# Altium schematic symbol library 00.SchLib: 29 symbols
Pins are listed as number, name and electrical type; pins without a type are passive.

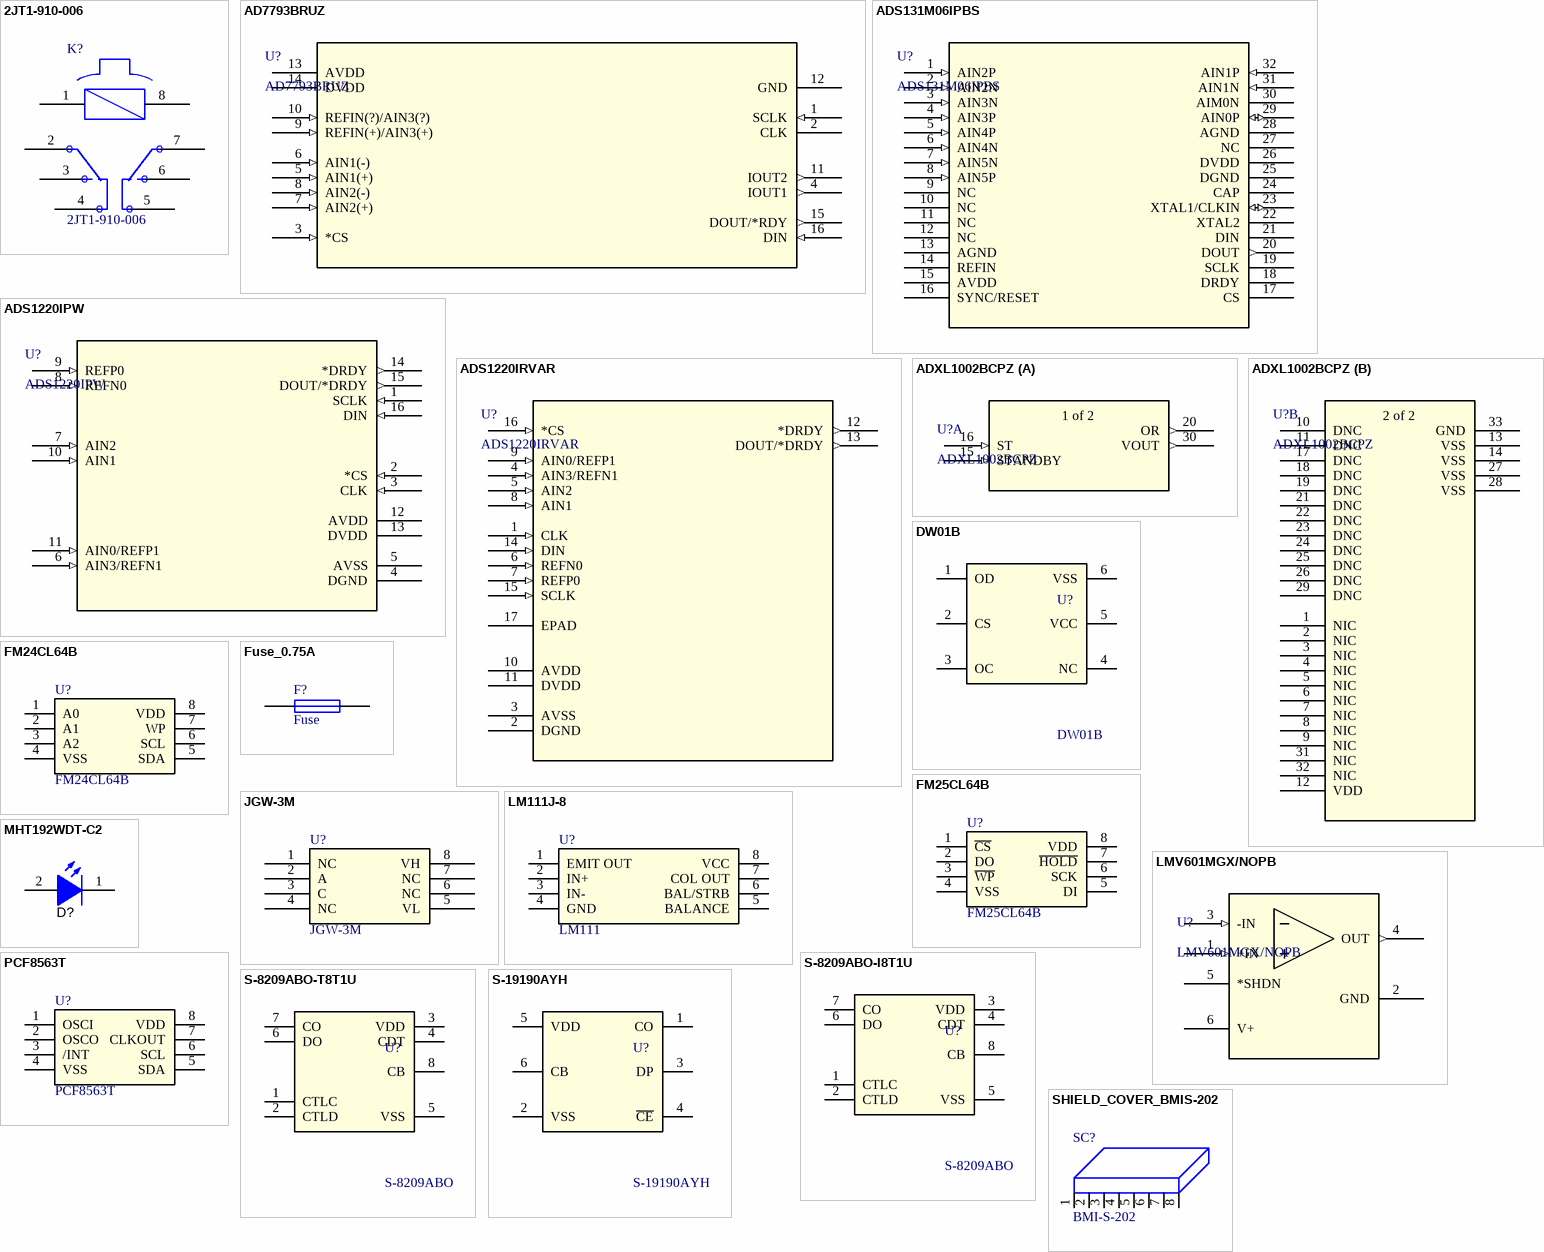
[diagram p0: symbols 2JT1-910-006 to SHIELD_COVER_BMIS-202]

## 2JT1-910-006
designator K?
线圈电阻98Ω，动作电压4.5~5.2V; CompType: 密封电磁继电器; Manufacturer: -; DistributorCode: -; Code: 2JT1-910-006; Package: TO-5; A_Code: -; A_Manufacturer: -; A_ComType: -
footprint TO-5
pins: 1, 2, 3, 4, 5, 6, 7, 8

## AD7793BRUZ
designator U?
模数转换芯片; Manufacturer: ADI(亚德诺); Code: AD7793BRUZ; A_Code: -; A_ComType: -; A_Manufacturer: -; CompType: 模数转换芯片; DistributorCode: C578522; Package: TSSOP-16
footprint RU_16
pins: 1 SCLK (in), 2 CLK, 3 *CS (in), 4 IOUT1 (out), 5 AIN1(+) (in), 6 AIN1(-) (in), 7 AIN2(+) (in), 8 AIN2(-) (in), 9 REFIN(+)/AIN3(+) (in), 10 REFIN(?)/AIN3(?) (in), 11 IOUT2 (out), 12 GND, 13 AVDD (power), 14 DVDD (power), 15 DOUT/*RDY (out), 16 DIN (in)

## ADS131M06IPBS
designator U?
-; Manufacturer: TI(德州仪器); CompType: 模数转换芯片; Code: ADS131M06IPBS; DistributorCode: -; Package: TSSOP-16; A_Code: -; A_ComType: -; A_Manufacturer: -
footprint QFP_06IPBS_TEX-L
pins: 1 AIN2P (in), 2 AIN2N (in), 3 AIN3N (in), 4 AIN3P (in), 5 AIN4P (in), 6 AIN4N (in), 7 AIN5N (in), 8 AIN5P (in), 9 NC, 10 NC, 11 NC, 12 NC, 13 AGND, 14 REFIN, 15 AVDD (power), 16 SYNC/RESET, 17 CS, 18 DRDY, 19 SCLK, 20 DOUT (out), 21 DIN, 22 XTAL2, 23 XTAL1/CLKIN (io), 24 CAP, 25 DGND, 26 DVDD (power), 27 NC, 28 AGND, 29 AIN0P (io), 30 AIM0N, 31 AIN1N (in), 32 AIN1P (in)

## ADS1220IPW
designator U?
模数转换芯片 / 读写接口类型 SPI / 工作电压 2.3V~5.5V / 输入类型 Differential, Single Ended / 参考类型 External, Internal / 输入数 2,4 / 采样率（sps） 2K / A/D 位数 24; Manufacturer: TI(德州仪器); Code: ADS1220IPW; CompType: 模数转换芯片; DistributorCode: C48263; Package: TSSOP-16; A_Code: -; A_ComType: -; A_Manufacturer: -
footprint PW16
pins: 1 SCLK (in), 2 *CS (in), 3 CLK (in), 4 DGND (power), 5 AVSS (power), 6 AIN3/REFN1 (in), 7 AIN2 (in), 8 REFN0 (in), 9 REFP0 (in), 10 AIN1 (in), 11 AIN0/REFP1 (in), 12 AVDD (power), 13 DVDD (power), 14 *DRDY (out), 15 DOUT/*DRDY (out), 16 DIN (in)

## ADS1220IRVAR
designator U?
模数转换芯片 / 读写接口类型 SPI / 工作电压 2.3V~5.5V / 输入类型 Differential, Single Ended / 参考类型 External, Internal / 输入数 2,4 / 采样率（sps） 2K / A/D 位数 24; Manufacturer: TI(德州仪器); Code: ADS1220IRVAR; CompType: 模数转换芯片; DistributorCode: C48263; Package: VFQFN-16
footprint RVA16_2P14X2P14
pins: 1 CLK (in), 2 DGND (power), 3 AVSS (power), 4 AIN3/REFN1 (in), 5 AIN2 (in), 6 REFN0 (in), 7 REFP0 (in), 8 AIN1 (in), 9 AIN0/REFP1 (in), 10 AVDD (power), 11 DVDD (power), 12 *DRDY (out), 13 DOUT/*DRDY (out), 14 DIN (in), 15 SCLK (in), 16 *CS (in), 17 EPAD

## ADXL1002BCPZ
designator U?
Manufacturer: ADI(亚德诺); CompType: 加速度计; DistributorCode: C579442; Code: ADXL1002BCPZ; Package: LFCSP-32
footprint CP-32-26_ADI
part A pins: 15 STANDBY (in), 16 ST (in), 20 OR (out), 30 VOUT (out)
part B pins: 1 NIC, 2 NIC, 3 NIC, 4 NIC, 5 NIC, 6 NIC, 7 NIC, 8 NIC, 9 NIC, 10 DNC, 11 DNC, 12 VDD (power), 13 VSS, 14 VSS, 17 DNC, 18 DNC, 19 DNC, 21 DNC, 22 DNC, 23 DNC, 24 DNC, 25 DNC, 26 DNC, 27 VSS, 28 VSS, 29 DNC, 31 NIC, 32 NIC, 33 GND
part A text: 1 of 2
part B text: 2 of 2

## DW01B
designator U?
Manufacturer: BLUE ROCKET(蓝箭); CompType: 电池保护芯片; Code: DW01B; DistributorCode: C305480; Package: SOT23-6
footprint USOT23-6
pins: 1 OD, 2 CS, 3 OC, 4 NC (power), 5 VCC (power), 6 VSS (hiz)

## FM24CL64B
designator U?
存储器构架(格式) FRAM / 存储器接口类型 I2C / 存储器容量 64Kb (8K x 8) / 工作电压 3V ~ 3.6V / 存储器类型 Non-Volatile; Manufacturer: CYPRESS(赛普拉斯); Code: FM24CL64B-GTR; CompType: FRAM存储器; DistributorCode: C9829; Package: SOIC-8; A_Code: -; A_ComType: -; A_Manufacturer: -
footprint SOP-8_150mil
footprint D8_TEX
pins: 1 A0 (power), 2 A1 (power), 3 A2 (power), 4 VSS, 5 SDA, 6 SCL, 7 WP, 8 VDD

## FM25CL64B
designator U?
存储器构架(格式) FRAM / 存储器接口类型 SPI / 存储器容量 64Kb (8K x 8) / 工作电压 2.7V ~ 3.65V / 存储器类型 Non-Volatile; Manufacturer: CYPRESS(赛普拉斯); Code: FM25CL64B-GTR; CompType: FRAM存储器; DistributorCode: C9830; Package: SOIC-8; A_Code: -; A_ComType: -; A_Manufacturer: -
footprint SOP-8_150mil
footprint D8_TEX
pins: 1 ~{CS} (power), 2 DO (power), 3 ~{WP} (power), 4 VSS, 5 DI, 6 SCK, 7 ~{HOLD}, 8 VDD

## Fuse_0.75A
designator F?, comment Fuse
额定电流0.75A;额定电压125V;L*W=6.1*2.69mm;-55℃～125℃; Manufacturer: Littelfuse; Code: 0451.750MRL; CompType: 表贴快断型一次熔断保险管; Revision: July-2002: Re-released for DXP Platform.; DistributorCode: C151117; Package: SMF_045X; A_Code: -; A_ComType: -; A_Manufacturer: -
footprint FUSE
pins: 1, 2

## JGW-3M
designator U?
固态继电器; Manufacturer: 中国航天; Code: JGW-3M/SMD/Y; DistributorCode: -; Package: SMD-8_9.0MM; A_Code: -; A_Manufacturer: -; CompType: 固态继电器; A_ComType: -
footprint SMD-8_9.0MM
footprint SMD-8_9.0MM
pins: 1 NC, 2 A, 3 C, 4 NC, 5 VL, 6 NC, 7 NC, 8 VH

## LM111J-8
designator U?, comment LM111
比较器; Manufacturer: NS; Code: LM111J; DistributorCode: -; Package: CDIP(8); A_Code: -; A_Manufacturer: -; CompType: 比较器; A_ComType: -
footprint DIP-8_L9.7-W6.4-P2.54-LS7.6-BL
pins: 1 EMIT OUT (power), 2 IN+ (power), 3 IN- (power), 4 GND, 5 BALANCE, 6 BAL/STRB, 7 COL OUT, 8 VCC

## LMV601MGX/NOPB
designator U?
运算放大器; Manufacturer: TI(德州仪器); CompType: 运放; DistributorCode: C470960; Package: SC-70-6; Code: LMV601MGX/NOPB
footprint DCK6_TEX-L
pins: 1 +IN (in), 2 GND (power), 3 -IN (in), 4 OUT (out), 5 *SHDN, 6 V+ (power)

## MHT192WDT-C2
designator D?  (value not drawn)
LED SMD贴片0603顶部发光 / 黄色雾状胶体，高亮白色光 / 电压VF:2.6-3.1V@5mA / 亮度Iv:228-450mcd@5mA / 坐标x:0.3,y:0.3 / 发光角度:120deg; Manufacturer: MEIHUA(美华科技); CompType: LED; Code: MHT192WDT-C2; Package: 0603; DistributorCode: C389521; A_Code: -; A_ComType: -; A_Manufacturer: -
footprint LED0603
pins: 1 K, 2 A

## PCF8563T
designator U?
电压 - 电源：1.8 V ~ 5.5 V / 电流 - 计时（最大）：0.6μA ~ 0.75μA @ 2V ~ 5V / 工作温度：-40°C ~ 85°C; Manufacturer: NXP(恩智浦); Code: PCF8563T/5,518; CompType: 实时时钟芯片; DistributorCode: C7440; Package: SOIC-8; A_Code: -; A_ComType: -; A_Manufacturer: -
footprint D8_TEX
pins: 1 OSCI (power), 2 OSCO (power), 3 /INT (power), 4 VSS, 5 SDA, 6 SCL, 7 CLKOUT, 8 VDD

## S-8209ABO-I8T1U
designator U?, comment S-8209ABO
均衡电压4.175V;过充电压4.25V-4.1V; Manufacturer: 艾普凌科; Code: S-8209ABO-I8T1U; CompType: 电池保护芯片; DistributorCode: -; Package: SNT-8A
footprint TSSOP-8
footprint SNT-8A
pins: 1 CTLC, 2 CTLD, 3 VDD, 4 CDT (power), 5 VSS (power), 6 DO (hiz), 7 CO, 8 CB

## S-8209ABO-T8T1U
designator U?, comment S-8209ABO
均衡电压4.175V;过充电压4.25V-4.1V; Manufacturer: 艾普凌科; Code: S-8209ABO-T8T1U; CompType: 电池保护芯片; DistributorCode: -; Package: TSSOP-8
footprint TSSOP-8
pins: 1 CTLC, 2 CTLD, 3 VDD, 4 CDT (power), 5 VSS (power), 6 DO (hiz), 7 CO, 8 CB

## S-19190AYH
designator U?
均衡电压4.15V;过充电压4.275V; Manufacturer: 艾普凌科; CompType: 电池保护芯片; Code: S-19190AYH; DistributorCode: -; Package: SOT23-6
footprint USOT23-6
pins: 1 CO, 2 VSS, 3 DP, 4 ~{CE} (power), 5 VDD (power), 6 CB (hiz)

## SHIELD_COVER_BMIS-202
designator SC?, comment BMI-S-202
BMI-S-202-F：EMI垫片、金属薄片、吸收片和屏蔽片 SBS,FRAM,TnR 3.60x16.50x16.50MM / BMI-S-202-C：EMI垫片、金属薄片、吸收片和屏蔽片 SBS,COVR,BP 2.00x16.96x16.96MM; Manufacturer: Laird Technologies EMI; Code: BMI-S-202-C(罩子)BMI-S-202-F（骨架）; CompType: SHIELD; Package: BMI-S-202; DistributorCode: Mouser 零件编号：739-BMI-202-C和739-BMI-202-F; A_Code: -; A_ComType: -; A_Manufacturer: -
footprint MECH_BMIS202N
pins: 1 GND (power), 2 GND (power), 3 GND (power), 4 GND (power), 5 GND (power), 6 GND (power), 7 GND (power), 8 GND (power)

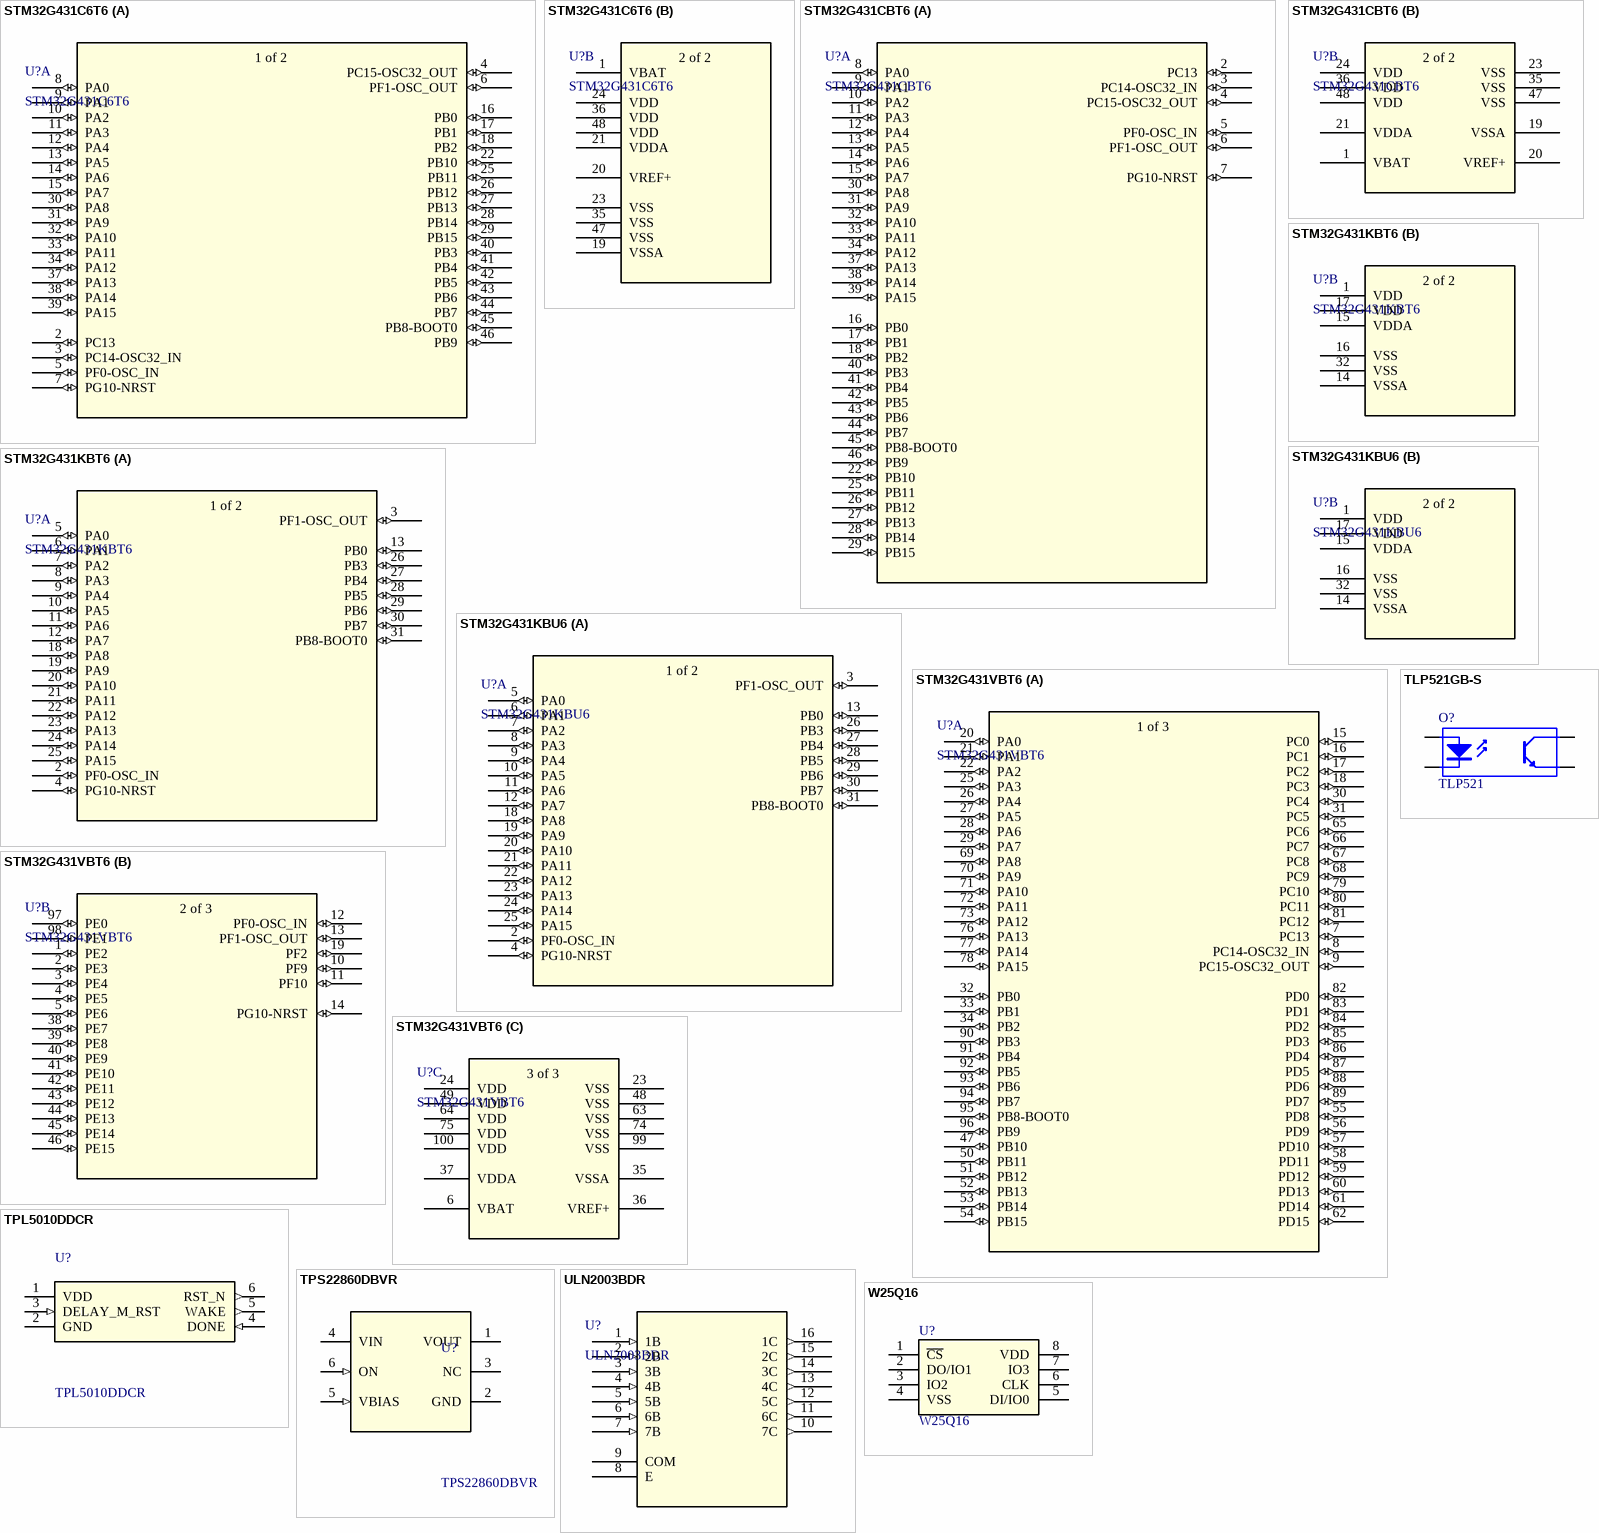
[diagram p1: symbols STM32G431C6T6 to W25Q16]

## STM32G431C6T6
designator U?
No Description Available; Manufacturer: ST(意法半导体); CompType: MCU; Code: STM32G431C6T6; DistributorCode: C529354; Package: LQFP-48
footprint LQFP48-7x7mm
part A pins: 2 PC13 (io), 3 PC14-OSC32_IN (io), 4 PC15-OSC32_OUT (io), 5 PF0-OSC_IN (io), 6 PF1-OSC_OUT (io), 7 PG10-NRST (io), 8 PA0 (io), 9 PA1 (io), 10 PA2 (io), 11 PA3 (io), 12 PA4 (io), 13 PA5 (io), 14 PA6 (io), 15 PA7 (io), 16 PB0 (io), 17 PB1 (io), 18 PB2 (io), 22 PB10 (io), 25 PB11 (io), 26 PB12 (io), 27 PB13 (io), 28 PB14 (io), 29 PB15 (io), 30 PA8 (io), 31 PA9 (io), 32 PA10 (io), 33 PA11 (io), 34 PA12 (io), 37 PA13 (io), 38 PA14 (io), 39 PA15 (io), 40 PB3 (io), 41 PB4 (io), 42 PB5 (io), 43 PB6 (io), 44 PB7 (io), 45 PB8-BOOT0 (io), 46 PB9 (io)
part B pins: 1 VBAT (power), 19 VSSA (power), 20 VREF+ (power), 21 VDDA (power), 23 VSS (power), 24 VDD (power), 35 VSS (power), 36 VDD (power), 47 VSS (power), 48 VDD (power)
part A text: 1 of 2
part B text: 2 of 2

## STM32G431CBT6
designator U?
No Description Available; Manufacturer: ST(意法半导体); Code: STM32G431CBT6A; CompType: MCU; DistributorCode: C529354; Package: LQFP-48
footprint LQFP48-7x7mm
part A pins: 2 PC13 (io), 3 PC14-OSC32_IN (io), 4 PC15-OSC32_OUT (io), 5 PF0-OSC_IN (io), 6 PF1-OSC_OUT (io), 7 PG10-NRST (io), 8 PA0 (io), 9 PA1 (io), 10 PA2 (io), 11 PA3 (io), 12 PA4 (io), 13 PA5 (io), 14 PA6 (io), 15 PA7 (io), 16 PB0 (io), 17 PB1 (io), 18 PB2 (io), 22 PB10 (io), 25 PB11 (io), 26 PB12 (io), 27 PB13 (io), 28 PB14 (io), 29 PB15 (io), 30 PA8 (io), 31 PA9 (io), 32 PA10 (io), 33 PA11 (io), 34 PA12 (io), 37 PA13 (io), 38 PA14 (io), 39 PA15 (io), 40 PB3 (io), 41 PB4 (io), 42 PB5 (io), 43 PB6 (io), 44 PB7 (io), 45 PB8-BOOT0 (io), 46 PB9 (io)
part B pins: 1 VBAT (power), 19 VSSA (power), 20 VREF+ (power), 21 VDDA (power), 23 VSS (power), 24 VDD (power), 35 VSS (power), 36 VDD (power), 47 VSS (power), 48 VDD (power)
part B text: 2 of 2

## STM32G431KBT6
designator U?
No Description Available; Manufacturer: ST(意法半导体); CompType: MCU; Code: STM32G431KBT6; DistributorCode: C529357; Package: LQFP-32
footprint LQFP-32
part A pins: 2 PF0-OSC_IN (io), 3 PF1-OSC_OUT (io), 4 PG10-NRST (io), 5 PA0 (io), 6 PA1 (io), 7 PA2 (io), 8 PA3 (io), 9 PA4 (io), 10 PA5 (io), 11 PA6 (io), 12 PA7 (io), 13 PB0 (io), 18 PA8 (io), 19 PA9 (io), 20 PA10 (io), 21 PA11 (io), 22 PA12 (io), 23 PA13 (io), 24 PA14 (io), 25 PA15 (io), 26 PB3 (io), 27 PB4 (io), 28 PB5 (io), 29 PB6 (io), 30 PB7 (io), 31 PB8-BOOT0 (io)
part B pins: 1 VDD (power), 14 VSSA (power), 15 VDDA (power), 16 VSS (power), 17 VDD (power), 32 VSS (power)
part A text: 1 of 2
part B text: 2 of 2

## STM32G431KBU6
designator U?
No Description Available; Manufacturer: ST(意法半导体); CompType: MCU; Code: STM32G431KBU6; DistributorCode: C529358; Package: UFQFPN-32
footprint UFQFPN-32
part A pins: 2 PF0-OSC_IN (io), 3 PF1-OSC_OUT (io), 4 PG10-NRST (io), 5 PA0 (io), 6 PA1 (io), 7 PA2 (io), 8 PA3 (io), 9 PA4 (io), 10 PA5 (io), 11 PA6 (io), 12 PA7 (io), 13 PB0 (io), 18 PA8 (io), 19 PA9 (io), 20 PA10 (io), 21 PA11 (io), 22 PA12 (io), 23 PA13 (io), 24 PA14 (io), 25 PA15 (io), 26 PB3 (io), 27 PB4 (io), 28 PB5 (io), 29 PB6 (io), 30 PB7 (io), 31 PB8-BOOT0 (io)
part B pins: 1 VDD (power), 14 VSSA (power), 15 VDDA (power), 16 VSS (power), 17 VDD (power), 32 VSS (power)
part A text: 1 of 2
part B text: 2 of 2

## STM32G431VBT6
designator U?
No Description Available; Manufacturer: ST(意法半导体); CompType: MCU; Code: STM32G431VBT6; DistributorCode: C529359; Package: LQFP-100
footprint LQFP100-14x14mm
part A pins: 7 PC13 (io), 8 PC14-OSC32_IN (io), 9 PC15-OSC32_OUT (io), 15 PC0 (io), 16 PC1 (io), 17 PC2 (io), 18 PC3 (io), 20 PA0 (io), 21 PA1 (io), 22 PA2 (io), 25 PA3 (io), 26 PA4 (io), 27 PA5 (io), 28 PA6 (io), 29 PA7 (io), 30 PC4 (io), 31 PC5 (io), 32 PB0 (io), 33 PB1 (io), 34 PB2 (io), 47 PB10 (io), 50 PB11 (io), 51 PB12 (io), 52 PB13 (io), 53 PB14 (io), 54 PB15 (io), 55 PD8 (io), 56 PD9 (io), 57 PD10 (io), 58 PD11 (io), 59 PD12 (io), 60 PD13 (io), 61 PD14 (io), 62 PD15 (io), 65 PC6 (io), 66 PC7 (io), 67 PC8 (io), 68 PC9 (io), 69 PA8 (io), 70 PA9 (io), 71 PA10 (io), 72 PA11 (io), 73 PA12 (io), 76 PA13 (io), 77 PA14 (io), 78 PA15 (io), 79 PC10 (io), 80 PC11 (io), 81 PC12 (io), 82 PD0 (io), 83 PD1 (io), 84 PD2 (io), 85 PD3 (io), 86 PD4 (io), 87 PD5 (io), 88 PD6 (io), 89 PD7 (io), 90 PB3 (io), 91 PB4 (io), 92 PB5 (io), 93 PB6 (io), 94 PB7 (io), 95 PB8-BOOT0 (io), 96 PB9 (io)
part B pins: 1 PE2 (io), 2 PE3 (io), 3 PE4 (io), 4 PE5 (io), 5 PE6 (io), 10 PF9 (io), 11 PF10 (io), 12 PF0-OSC_IN (io), 13 PF1-OSC_OUT (io), 14 PG10-NRST (io), 19 PF2 (io), 38 PE7 (io), 39 PE8 (io), 40 PE9 (io), 41 PE10 (io), 42 PE11 (io), 43 PE12 (io), 44 PE13 (io), 45 PE14 (io), 46 PE15 (io), 97 PE0 (io), 98 PE1 (io)
part C pins: 6 VBAT (power), 23 VSS (power), 24 VDD (power), 35 VSSA (power), 36 VREF+ (power), 37 VDDA (power), 48 VSS (power), 49 VDD (power), 63 VSS (power), 64 VDD (power), 74 VSS (power), 75 VDD (power), 99 VSS (power), 100 VDD (power)
part A text: 1 of 3
part B text: 2 of 3
part C text: 3 of 3

## TLP521GB-S
designator O?, comment TLP521
光耦; Manufacturer: UMW(友台半导体); Code: TLP521GB-S; DistributorCode: C364143; Package: SMD-4P; A_Code: -; A_Manufacturer: -; CompType: 光耦; A_ComType: -
footprint DIP-4 (DIP; 4 Leads; Row Spacing 7.62 mm; Pitch 2.54 mm)
footprint SMD-4
pins: 1 A "Anode", 2 K "Cathode", 3 E "Emitter", 4 C "Collector"

## TPL5010DDCR
designator U?
看门狗; Manufacturer: TI(德州仪器); Code: TPL5010DDCR; DistributorCode: C473912; Package: SOT23-Thin-6; CompType: 看门狗; A_Code: -; A_ComType: -; A_Manufacturer: -
footprint DDC0006A_N
pins: 1 VDD (power), 2 GND (power), 3 DELAY_M_RST (in), 4 DONE (in), 5 WAKE (out), 6 RST_N (out)

## TPS22860DBVR
designator U?
负载开关; Manufacturer: TI(德州仪器); CompType: 模拟开关; Code: TPS22860DBVR; DistributorCode: C132005; Package: SOT23-6
footprint DBV0006A_N
pins: 1 VOUT (power), 2 GND (power), 3 NC, 4 VIN (power), 5 VBIAS (in), 6 ON (in)

## ULN2003BDR
designator U?
footprint D16_TEX
pins: 1 1B (in), 2 2B (in), 3 3B (in), 4 4B (in), 5 5B (in), 6 6B (in), 7 7B (in), 8 E, 9 COM, 10 7C (out), 11 6C (out), 12 5C (out), 13 4C (out), 14 3C (out), 15 2C (out), 16 1C (out)

## W25Q16
designator U?
存储器接口类型 SPI-双/四通道I / O / 存储器容量 16Mb（2M x 8） / 工作电压 2.7V〜3.6V / 存储器类型 非易失性; Manufacturer: WINBOND(华邦); Code: W25Q16JVSSIQ; CompType: FLASH存储器; DistributorCode: C82317; Package: SOIC-8; A_Code: -; A_ComType: -; A_Manufacturer: -
footprint D8_TEX
pins: 1 ~{CS} (power), 2 DO/IO1 (power), 3 IO2 (power), 4 VSS, 5 DI/IO0, 6 CLK, 7 IO3, 8 VDD